# EAGLE library part TMC2208-LA (library ROSnode)
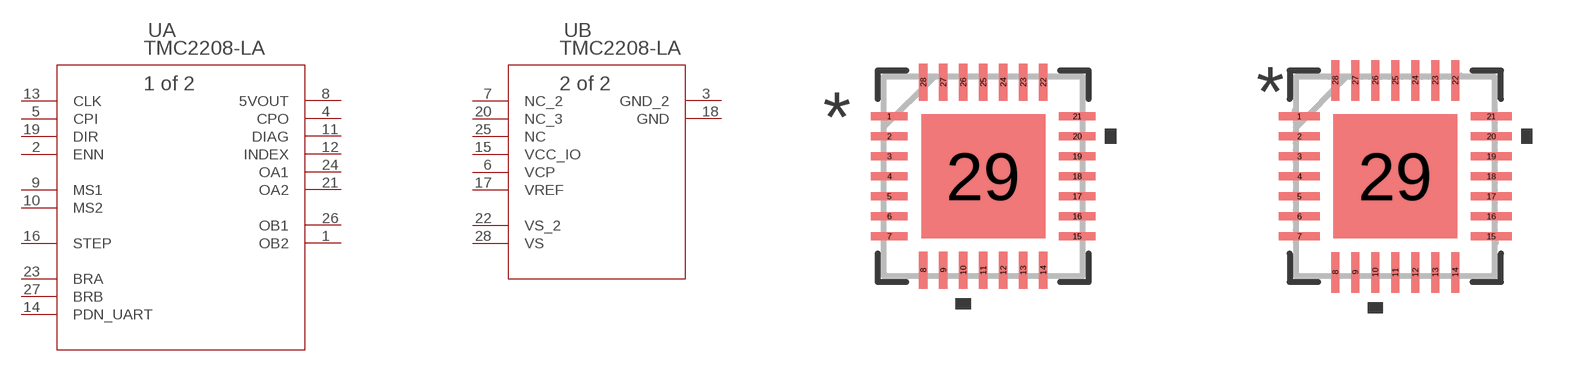
[diagram p0: symbol with the pads of QFN28_5X5_TRI; footprints QFN28_5X5_TRI, QFN28_5X5_TRI-M]

Designator prefix U; gates A=TMC2208-LA B=TMC2208-LA_A

## TMC2208-LA (BUILT_BY: EMA_Jessica; COPYRIGHT: Copyright (C) 2016 Accelerated Designs. All rights reserved; MANUFACTURER_PART_NUMBER: TMC2208-LA; SOURCELIBRARY: Trinamic_2018-10-17; VENDOR: TRINAMIC)  [QFN28_5X5_TRI]
1  A:OB2  out
2  A:ENN  in
3  B:GND_2  pwr
4  A:CPO  out
5  A:CPI  in
6  B:VCP  pwr
7  B:NC_2  nc
8  A:5VOUT  out
9  A:MS1  in
10  A:MS2  in
11  A:DIAG  out
12  A:INDEX  out
13  A:CLK  in
14  A:PDN_UART
15  B:VCC_IO  pwr
16  A:STEP  in
17  B:VREF  in
18  B:GND  pwr
19  A:DIR  in
20  B:NC_3  nc
21  A:OA2  out
22  B:VS_2  pwr
23  A:BRA  pas
24  A:OA1  out
25  B:NC  nc
26  A:OB1  out
27  A:BRB  pas
28  B:VS  pwr

## TMC2208-LAQFN28_5X5_TRI-M (BUILT_BY: EMA_Jessica; COPYRIGHT: Copyright (C) 2016 Accelerated Designs. All rights reserved; MANUFACTURER_PART_NUMBER: TMC2208-LA; SOURCELIBRARY: Trinamic_2018-10-17; VENDOR: TRINAMIC)  [QFN28_5X5_TRI-M]
Pads as for QFN28_5X5_TRI

## TMC2208-LAQFN28_5X5_TRI-L (BUILT_BY: EMA_Jessica; COPYRIGHT: Copyright (C) 2016 Accelerated Designs. All rights reserved; MANUFACTURER_PART_NUMBER: TMC2208-LA; SOURCELIBRARY: Trinamic_2018-10-17; VENDOR: TRINAMIC)  [QFN28_5X5_TRI-L]
Pads as for QFN28_5X5_TRI

## Footprint QFN28_5X5_TRI (pad centres in mm)
smd 0.914 x 0.203: 1 -2.349,1.5; 2 -2.349,1; 3 -2.349,0.5; 4 -2.349,0; 5 -2.349,-0.5; 6 -2.349,-1; 7 -2.349,-1.5; 15 2.349,-1.5; 16 2.349,-1; 17 2.349,-0.5; 18 2.349,0; 19 2.349,0.5; 20 2.349,1; 21 2.349,1.5
smd 0.203 x 0.914: 8 -1.5,-2.349; 9 -1,-2.349; 10 -0.5,-2.349; 11 0,-2.349; 12 0.5,-2.349; 13 1,-2.349; 14 1.5,-2.349; 22 1.5,2.349; 23 1,2.349; 24 0.5,2.349; 25 0,2.349; 26 -0.5,2.349; 27 -1,2.349; 28 -1.5,2.349
smd 3.099 x 3.099: 29 0,0

## Footprint QFN28_5X5_TRI-M (pad centres in mm)
smd 1.016 x 0.203: 1 -2.4,1.5; 2 -2.4,1; 3 -2.4,0.5; 4 -2.4,0; 5 -2.4,-0.5; 6 -2.4,-1; 7 -2.4,-1.5; 15 2.4,-1.5; 16 2.4,-1; 17 2.4,-0.5; 18 2.4,0; 19 2.4,0.5; 20 2.4,1; 21 2.4,1.5
smd 0.203 x 1.016: 8 -1.5,-2.4; 9 -1,-2.4; 10 -0.5,-2.4; 11 0,-2.4; 12 0.5,-2.4; 13 1,-2.4; 14 1.5,-2.4; 22 1.5,2.4; 23 1,2.4; 24 0.5,2.4; 25 0,2.4; 26 -0.5,2.4; 27 -1,2.4; 28 -1.5,2.4
smd 3.099 x 3.099: 29 0,0

## Footprint QFN28_5X5_TRI-L (pad centres in mm)
smd 0.813 x 0.203: 1 -2.299,1.5; 2 -2.299,1; 3 -2.299,0.5; 4 -2.299,0; 5 -2.299,-0.5; 6 -2.299,-1; 7 -2.299,-1.5; 15 2.299,-1.5; 16 2.299,-1; 17 2.299,-0.5; 18 2.299,0; 19 2.299,0.5; 20 2.299,1; 21 2.299,1.5
smd 0.203 x 0.813: 8 -1.5,-2.299; 9 -1,-2.299; 10 -0.5,-2.299; 11 0,-2.299; 12 0.5,-2.299; 13 1,-2.299; 14 1.5,-2.299; 22 1.5,2.299; 23 1,2.299; 24 0.5,2.299; 25 0,2.299; 26 -0.5,2.299; 27 -1,2.299; 28 -1.5,2.299
smd 3.099 x 3.099: 29 0,0